# Altium schematic symbol library CURRENT_SENSE_R.SchLib: 1 symbol
Pins are listed as number, name and electrical type; pins without a type are passive.

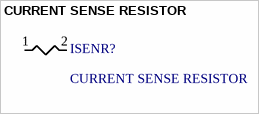
[diagram p0: symbol CURRENT SENSE RESISTOR]

## CURRENT SENSE RESISTOR
designator ISENR?
footprint CURRENT_SENSE_RESISTOR (2512 CURRENT_SENSE_RESISTOR)
pins: 1 PIN1, 2 PIN2